# EAGLE library part 1-1825006-3 (library Switches)
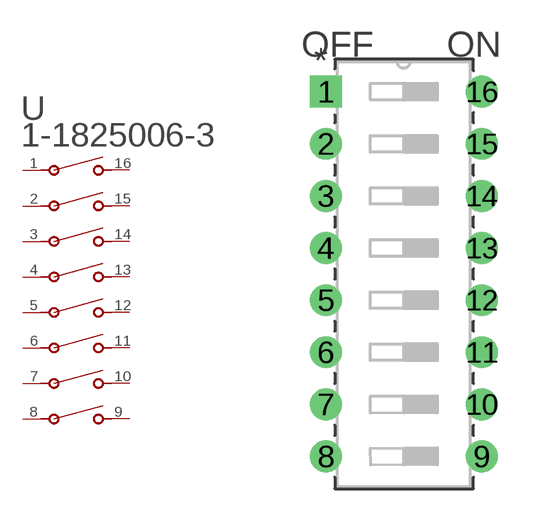
[diagram p44: symbol with the pads of SWDIP16_299X110P100; footprint SWDIP16_299X110P100]

Designator prefix U

## 1-1825006-3 (BUILT_BY: EMA_UL_Team; CATEGORY: DIP & SIP Switches; COPYRIGHT: Copyright (C) 2016 Accelerated Designs. All rights reserved; DESCRIPTION: GDS0804=DIP SW,SLIDE,THRU/HL; MANUFACTURER_PART_NUMBER: 1-1825006-3; PART_STATUS: active; SERIES: Alcoswitch DIP,Alcoswitch DIP GDS; VENDOR: TE Connectivity)  [SWDIP16_299X110P100]
1  1  pas
2  2  pas
3  3  pas
4  4  pas
5  5  pas
6  6  pas
7  7  pas
8  8  pas
9  9  pas
10  10  pas
11  11  pas
12  12  pas
13  13  pas
14  14  pas
15  15  pas
16  16  pas

## Footprint SWDIP16_299X110P100 (pad centres in mm)
drill 0.838 pad 1.549 square: 1 -7.595,17.78
drill 0.838 pad 1.549: 2 -7.595,15.24; 3 -7.595,12.7; 4 -7.595,10.16; 5 -7.595,7.62; 6 -7.595,5.08; 7 -7.595,2.54; 8 -7.595,0; 9 0,0; 10 0,2.54; 11 0,5.08; 12 0,7.62; 13 0,10.16; 14 0,12.7; 15 0,15.24; 16 0,17.78